# Altium footprint library Sensors.PcbLib: 20 footprints (part 1 of 2)
Each footprint in its own frame and in the unit in brackets; x right, y up, seen from the top. Pads: shape width x height; smd on the part's side, far side on the other; paste and mask are expansions set on the pad; w line width, h text height; cw(c..) or ccw(c..) is an arc to the next point about the centre after c.
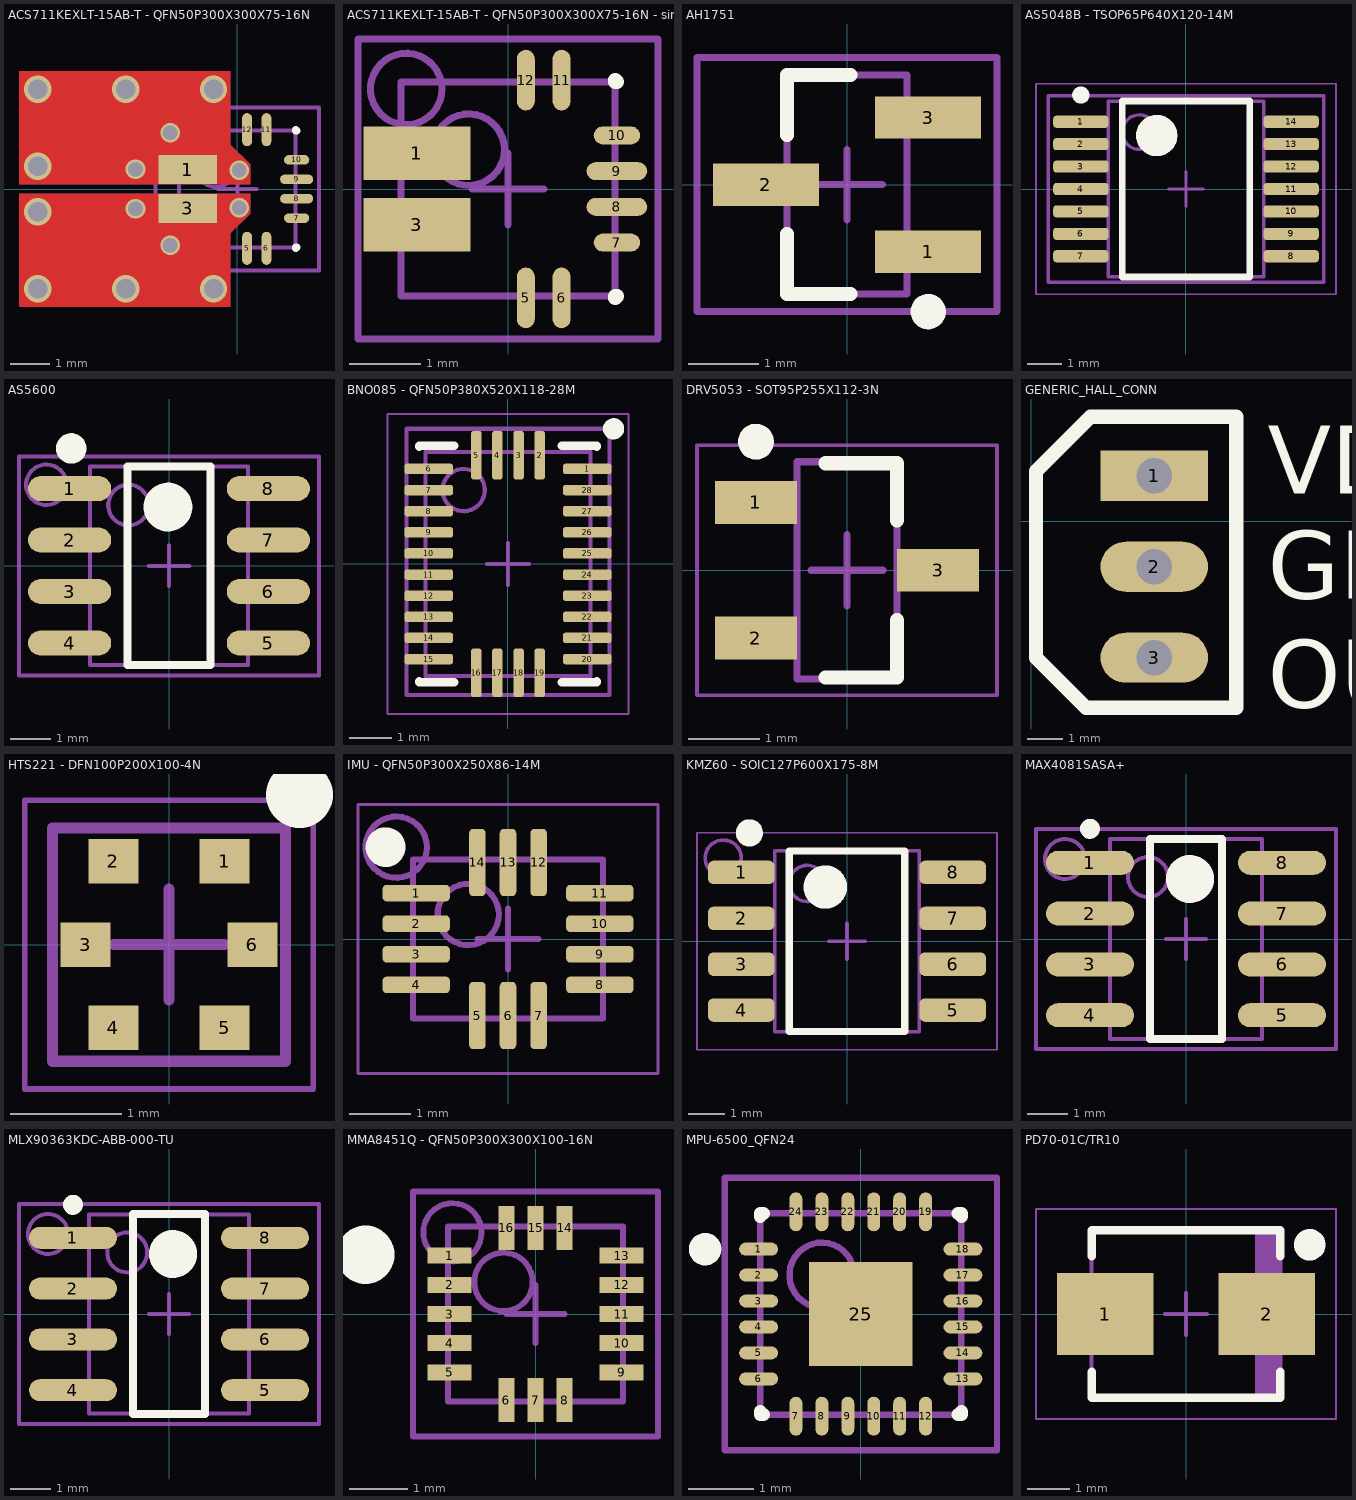
[diagram p0: the footprints below, top view; thin cyan lines are the x and y axes]

## ACS711KEXLT-15AB-T - QFN50P300X300X75-16N [mm] "QFN, 16-Leads, Body 3.0x3.0mm (max), Pitch 0.50mm, IPC Medium Density"
height 0.75
pads (10):
  rect 1.5x0.75 smd mask+0.07: 1(-1.275,0.5) 3(-1.275,-0.5)
  oval 0.25x0.85 smd mask+0.07: 5(0.25,-1.525) 6(0.75,-1.525) 11(0.75,1.525) 12(0.25,1.525)
  oval 0.65x0.25 smd mask+0.07: 7(1.525,-0.75) 10(1.525,0.75)
  oval 0.85x0.25 smd mask+0.07: 8(1.525,-0.25) 9(1.525,0.25)
via 0.051,-0.483 diameter 0.508 hole 0.381
via -0.61,-2.565 diameter 0.7 hole 0.5
via -2.87,-2.565 diameter 0.7 hole 0.5
via -5.131,-2.565 diameter 0.7 hole 0.5
via -5.131,-0.584 diameter 0.7 hole 0.5
via -2.616,-0.508 diameter 0.508 hole 0.381
via -1.727,-1.448 diameter 0.508 hole 0.381
via -1.727,1.448 diameter 0.508 hole 0.381
via -2.616,0.508 diameter 0.508 hole 0.381
via -5.131,0.584 diameter 0.7 hole 0.5
via -5.131,2.565 diameter 0.7 hole 0.5
via -2.87,2.565 diameter 0.7 hole 0.5
via -0.61,2.565 diameter 0.7 hole 0.5
via 0.051,0.483 diameter 0.508 hole 0.381
Top Layer:
  region: -5.613,-0.127 0.33,-0.127 0.33,-0.635 -0.178,-1.143 -0.178,-3.023 -5.613,-3.023
  region: -5.613,0.127 0.33,0.127 0.33,0.635 -0.178,1.143 -0.178,3.023 -5.613,3.023
Mid-Layer 1:
  region: -5.613,0.127 0.33,0.127 0.33,0.635 -0.178,1.143 -0.178,3.023 -5.613,3.023
  region: -5.613,-0.127 0.33,-0.127 0.33,-0.635 -0.178,-1.143 -0.178,-3.023 -5.613,-3.023
Mid-Layer 2:
  region: -5.613,-0.127 0.33,-0.127 0.33,-0.635 -0.178,-1.143 -0.178,-3.023 -5.613,-3.023
  region: -5.613,0.127 0.33,0.127 0.33,0.635 -0.178,1.143 -0.178,3.023 -5.613,3.023
Bottom Layer:
  region: -5.613,0.127 0.33,0.127 0.33,0.635 -0.178,1.143 -0.178,3.023 -5.613,3.023
  region: -5.613,-0.127 0.33,-0.127 0.33,-0.635 -0.178,-1.143 -0.178,-3.023 -5.613,-3.023
Top Overlay:
  lines w0.2: 1.5,-1.525 1.5,-1.5 1.525,-1.5 ; 1.5,1.525 1.5,1.5 1.525,1.5
Mechanical 1:
  circle w0.1: c-1.425,1.4 r0.5
Mechanical 13:
  circle w0.1: c-0.55,0.55 r0.5
  lines w0.1: -1.5,-1.5 1.5,-1.5 1.5,1.5 -1.5,1.5 -1.5,-1.5
Mechanical 15:
  lines w0.1: -0.5,0 0.5,0 ; 0,-0.5 0,0.5 ; -2.1,-2.1 2.1,-2.1 2.1,2.1 -2.1,2.1 -2.1,-2.1
Assembly:
  text ".Designator" at -1.9,-0.3 h1.1
3D body: height 0.75, standoff 0.08, extent -1.5,-1.5 1.5,1.5

## ACS711KEXLT-15AB-T - QFN50P300X300X75-16N - single layer [mm] "QFN, 16-Leads, Body 3.0x3.0mm (max), Pitch 0.50mm, IPC Medium Density"
height 0.75
pads (10):
  rect 1.5x0.75 smd mask+0.07: 1(-1.275,0.5) 3(-1.275,-0.5)
  oval 0.25x0.85 smd mask+0.07: 5(0.25,-1.525) 6(0.75,-1.525) 11(0.75,1.525) 12(0.25,1.525)
  oval 0.65x0.25 smd mask+0.07: 7(1.525,-0.75) 10(1.525,0.75)
  oval 0.85x0.25 smd mask+0.07: 8(1.525,-0.25) 9(1.525,0.25)
Top Overlay:
  lines w0.2: 1.5,-1.525 1.5,-1.5 1.525,-1.5 ; 1.5,1.525 1.5,1.5 1.525,1.5
Mechanical 13:
  circle w0.1: c-0.55,0.55 r0.5
  lines w0.1: -1.5,-1.5 1.5,-1.5 1.5,1.5 -1.5,1.5 -1.5,-1.5
Mechanical 15:
  lines w0.1: -0.5,0 0.5,0 ; 0,-0.5 0,0.5 ; -2.1,-2.1 2.1,-2.1 2.1,2.1 -2.1,2.1 -2.1,-2.1
Assembly:
  circle w0.1: c-1.425,1.4 r0.5
  text ".Designator" at -1.925,-0.3 h1.1
3D body: height 0.75, standoff 0.08, extent -1.5,-1.5 1.5,1.5

## AH1751 [mm] "SOT23, 3-Leads, Body 3.1x3.0mm (max), Pitch 0.95mm, IPC Medium Density"
height 1.4
pads (3):
  rect 1.5x0.6 smd: 1(1.15,-0.95) 2(-1.15,0) 3(1.15,0.95)
Top Overlay:
  circle w0.25: c1.15,-1.8 r0.125
  lines w0.2: -0.85,-0.7 -0.85,-1.55 0.05,-1.55 ; -0.85,0.7 -0.85,1.55 0.05,1.55
Mechanical 13:
  lines w0.1: -0.85,-1.55 0.85,-1.55 0.85,1.55 -0.85,1.55 -0.85,-1.55
Mechanical 15:
  lines w0.1: -0.5,0 0.5,0 ; 0,-0.5 0,0.5 ; -2.125,-1.8 2.125,-1.8 2.125,1.8 -2.125,1.8 -2.125,-1.8
Assembly:
  text ".Designator" at -1.875,-0.25 h1.1
3D body: height 1.4, standoff 0.01, extent -0.85,-1.55 0.85,1.55

## AS5048B - TSOP65P640X120-14M [mm] "TSOP, 14-Leads, Body 5.00x4.40mm, Pitch 0.65mm, IPC Low Density"
height 1.2
pads (14):
  rrect50% 1.6x0.35 smd paste-0.05: 1(-3.05,1.95) 2(-3.05,1.3) 3(-3.05,0.65) 4(-3.05,0) 5(-3.05,-0.65) 6(-3.05,-1.3) 7(-3.05,-1.95) 8(3.05,-1.95) 9(3.05,-1.3) 10(3.05,-0.65) 11(3.05,0) 12(3.05,0.65) 13(3.05,1.3) 14(3.05,1.95)
Top Overlay:
  circle w0.25: c-3.05,2.725 r0.125
  circle w0.6: c-0.85,1.55 r0.3
  lines w0.2: -1.85,-2.55 -1.85,2.55 1.85,2.55 1.85,-2.55 -1.85,-2.55
Mechanical 13:
  circle w0.1: c-1.35,1.65 r0.5
  lines w0.1: -2.25,-2.55 -2.25,2.55 2.25,2.55 2.25,-2.55 -2.25,-2.55
Mechanical 15:
  lines w0.05: -4.35,-3.05 -4.35,3.05 4.35,3.05 4.35,-3.05 -4.35,-3.05
  lines w0.1: -0.5,0 0.5,0 ; 0,-0.5 0,0.5
Assembly:
  lines w0.1: -4,-2.7 4,-2.7 4,2.7 -4,2.7 -4,-2.7
  text ".Designator" at -3.8,-0.4 h1.8
3D body: height 1.2, standoff 0.05, extent -2.25,-2.55 2.25,2.55

## AS5600 [mm] "SOIC, 8-Leads, Body 4.9x3.9mm (max), Pitch 1.27mm, IPC Medium Density"
height 1.75
pads (8):
  rrect100% 2.05x0.62 smd paste-0.04: 1(-2.45,1.905) 2(-2.45,0.635) 3(-2.45,-0.635) 4(-2.45,-1.905) 5(2.45,-1.905) 6(2.45,-0.635) 7(2.45,0.635) 8(2.45,1.905)
Top Overlay:
  circle w0.5: c-2.413,2.896 r0.125
  circle w0.6: c-0.025,1.45 r0.3
  lines w0.2: -1.025,-2.45 -1.025,2.45 1.025,2.45 1.025,-2.45 -1.025,-2.45
Mechanical 13:
  circle w0.1: c-1,1.5 r0.5
  lines w0.1: -1.95,-2.45 -1.95,2.45 1.95,2.45 1.95,-2.45 -1.95,-2.45
Mechanical 15:
  lines w0.1: -0.5,0 0.5,0 ; 0,-0.5 0,0.5 ; -3.7,-2.7 -3.7,2.7 3.7,2.7 3.7,-2.7 -3.7,-2.7
Assembly:
  circle w0.1: c-3.025,2 r0.5
  lines w0.1: -3.7,-2.7 3.7,-2.7 3.7,2.7 -3.7,2.7 -3.7,-2.7
  text ".Designator" at -3.4,-0.4 h1.8
3D body: height 1.75, standoff 0.1, extent -1.95,-2.45 1.95,2.45

## BNO085 - QFN50P380X520X118-28M [mm] "QFN, 28-Leads, Body 3.80x5.20mm, Pitch 0.50mm, IPC Low Density"
height 1.18
pads (28):
  rrect50% 1.15x0.25 smd paste-0.03 mask+0.07: 1(1.875,2.25) 6(-1.875,2.25) 7(-1.875,1.75) 8(-1.875,1.25) 9(-1.875,0.75) 10(-1.875,0.25) 11(-1.875,-0.25) 12(-1.875,-0.75) 13(-1.875,-1.25) 14(-1.875,-1.75) 15(-1.875,-2.25) 20(1.875,-2.25) 21(1.875,-1.75) 22(1.875,-1.25) 23(1.875,-0.75) 24(1.875,-0.25) 25(1.875,0.25) 26(1.875,0.75) 27(1.875,1.25) 28(1.875,1.75)
  rrect50% 0.25x1.15 smd paste-0.03 mask+0.07: 2(0.75,2.575) 3(0.25,2.575) 4(-0.25,2.575) 5(-0.75,2.575) 16(-0.75,-2.575) 17(-0.25,-2.575) 18(0.25,-2.575) 19(0.75,-2.575)
Top Overlay:
  circle w0.25: c2.5,3.2 r0.125
  lines w0.2: -2.1,-2.775 -2.1,-2.8 -1.275,-2.8 ; -2.1,2.775 -2.1,2.8 -1.275,2.8 ; 1.275,-2.8 2.1,-2.8 2.1,-2.775 ; 1.275,2.8 2.1,2.8 2.1,2.775
Mechanical 13:
  circle w0.1: c-1.05,1.75 r0.5
  lines w0.1: -1.95,-2.65 -1.95,2.65 1.95,2.65 1.95,-2.65 -1.95,-2.65
Mechanical 15:
  lines w0.05: -2.85,-3.55 -2.85,3.55 2.85,3.55 2.85,-3.55 -2.85,-3.55
  lines w0.1: -0.5,0 0.5,0 ; 0,-0.5 0,0.5
Assembly:
  lines w0.1: -2.4,-3.1 2.4,-3.1 2.4,3.2 -2.4,3.2 -2.4,-3.1
  text ".Designator" at -1.625,-0.1 h0.8
3D body: height 1.18, standoff 0.1, extent -1.95,-2.65 1.95,2.65

## DRV5053 - SOT95P255X112-3N [mm] "SOT23, 3-Leads, Body 2.92x2.55mm, Pitch 0.95mm, IPC Medium Density"
height 1.12
pads (3):
  rect 1.15x0.6 smd: 1(-1.275,0.95) 2(-1.275,-0.95) 3(1.275,0)
Top Overlay:
  circle w0.25: c-1.275,1.8 r0.125
  lines w0.2: -0.3,-1.5 0.7,-1.5 0.7,-0.7 ; -0.3,1.5 0.7,1.5 0.7,0.7
Mechanical 13:
  lines w0.1: -0.7,-1.52 0.7,-1.52 0.7,1.52 -0.7,1.52 -0.7,-1.52
Mechanical 15:
  lines w0.05: -2.1,-1.75 2.1,-1.75 2.1,1.75 -2.1,1.75 -2.1,-1.75
  lines w0.1: -0.5,0 0.5,0 ; 0,-0.5 0,0.5
Assembly:
  text ".Designator" at -1.925,-0.3 h1.1
3D body: height 1.12, standoff 0.01, extent -0.7,-1.52 0.7,1.52

## GENERIC_HALL_CONN [mm]
pads (3):
  rect 3x1.4 hole 1: 1(3.429,1.27)
  oval 3x1.4 hole 1: 2(3.429,-1.27) 3(3.429,-3.81)
Top Overlay:
  lines w0.4: 0.127,-3.81 0.127,1.397 1.651,2.921 5.715,2.921 5.715,-5.207 1.524,-5.207 0.127,-3.81
  text "OUT" at 6.604,-5.207 h1.9
  text "GND" at 6.604,-2.159 h1.9
  text "VDD" at 6.604,0.762 h1.9

## HTS221 - DFN100P200X100-4N [mm] "DFN, 4-Leads, Body 2.00x2.00mm, Pitch 1.00mm, IPC Medium Density"
height 1
pads (6):
  rect 0.45x0.4 smd: 1(0.5,0.75) 2(-0.5,0.75) 3(-0.75,0) 4(-0.5,-0.75) 5(0.5,-0.75) 6(0.75,0)
Top Overlay:
  circle w0.5: c1.175,1.35 r0.05
Mechanical 13:
  lines w0.1: -1.05,-1.05 1.05,-1.05 1.05,1.05 -1.05,1.05 -1.05,-1.05
Mechanical 15:
  lines w0.05: -1.3,-1.3 1.3,-1.3 1.3,1.3 -1.3,1.3 -1.3,-1.3
  lines w0.1: -0.5,0 0.5,0 ; 0,-0.5 0,0.5
3D body: height 1, standoff 0.05, extent -1.05,-1.05 1.05,1.05

## IMU - QFN50P300X250X86-14M [mm] "QFN, 14-Leads, Body 3.00x2.50mm, Pitch 0.50mm, IPC Low Density"
height 0.86
pads (14):
  rrect50% 1.1x0.27 smd paste-0.035 mask+0.07: 1(-1.5,0.75) 2(-1.5,0.25) 3(-1.5,-0.25) 4(-1.5,-0.75) 8(1.5,-0.75) 9(1.5,-0.25) 10(1.5,0.25) 11(1.5,0.75)
  rrect50% 0.27x1.1 smd paste-0.035 mask+0.07: 5(-0.5,-1.25) 6(0,-1.25) 7(0.5,-1.25) 12(0.5,1.25) 13(0,1.25) 14(-0.5,1.25)
Top Overlay:
  circle w0.4: c-2,1.5 r0.125
Mechanical 13:
  circle w0.1: c-0.65,0.4 r0.5
  lines w0.1: -1.55,-1.3 1.55,-1.3 1.55,1.3 -1.55,1.3 -1.55,-1.3
Mechanical 15:
  lines w0.05: -2.45,-2.2 2.45,-2.2 2.45,2.2 -2.45,2.2 -2.45,-2.2
  lines w0.1: -0.5,0 0.5,0 ; 0,-0.5 0,0.5
Assembly:
  circle w0.1: c-1.825,1.5 r0.5
  lines w0.05: -2.45,-2.2 -2.45,2.2 2.45,2.2 2.45,-2.2 -2.45,-2.2
  text ".Designator" at -1.725,-0.2 h0.8
3D body: height 0.86, standoff 0.01, extent -1.55,-1.3 1.55,1.3

## KMZ60 - SOIC127P600X175-8M [mm] "SOIC, 8-Leads, Body 4.90x3.90mm, Pitch 1.27mm, IPC Low Density"
height 1.75
pads (8):
  rrect50% 1.85x0.65 smd paste-0.025: 1(-2.925,1.905) 2(-2.925,0.635) 3(-2.925,-0.635) 4(-2.925,-1.905) 5(2.925,-1.905) 6(2.925,-0.635) 7(2.925,0.635) 8(2.925,1.905)
Top Overlay:
  circle w0.6: c-0.6,1.5 r0.3
  lines w0.2: -1.6,-2.5 -1.6,2.5 1.6,2.5 1.6,-2.5 -1.6,-2.5
  lines w0.5: -2.585,3.048 ccw(c-2.7,3) -2.575,3
Mechanical 13:
  circle w0.1: c-1.1,1.6 r0.5
  lines w0.1: -2,-2.5 -2,2.5 2,2.5 2,-2.5 -2,-2.5
Mechanical 15:
  lines w0.05: -4.15,-3 -4.15,3 4.15,3 4.15,-3 -4.15,-3
  lines w0.1: -0.5,0 0.5,0 ; 0,-0.5 0,0.5
Assembly:
  circle w0.1: c-3.425,2.3 r0.5
  text ".Designator" at -2.325,-0.275 h1.1
3D body: height 1.75, standoff 0.1, extent -2,-2.5 2,2.5

## MAX4081SASA+ [mm] "SOIC, 8-Leads, Body 5.0x3.8mm (max), Pitch 1.27mm, IPC Medium Density"
height 1.75
pads (8):
  oval 2.2x0.6 smd: 1(-2.4,1.905) 2(-2.4,0.635) 3(-2.4,-0.635) 4(-2.4,-1.905) 5(2.4,-1.905) 6(2.4,-0.635) 7(2.4,0.635) 8(2.4,1.905)
Top Overlay:
  circle w0.25: c-2.4,2.755 r0.125
  circle w0.6: c0.1,1.5 r0.3
  lines w0.2: -0.9,-2.5 -0.9,2.5 0.9,2.5 0.9,-2.5 -0.9,-2.5
Mechanical 13:
  circle w0.1: c-0.95,1.55 r0.5
  lines w0.1: -1.9,-2.5 -1.9,2.5 1.9,2.5 1.9,-2.5 -1.9,-2.5
Mechanical 15:
  lines w0.1: -0.5,0 0.5,0 ; 0,-0.5 0,0.5 ; -3.75,-2.75 -3.75,2.75 3.75,2.75 3.75,-2.75 -3.75,-2.75
Assembly:
  circle w0.1: c-3.025,2 r0.5
  text ".Designator" at -2.4,-0.25 h1.1
3D body: height 1.75, standoff 0.1, extent -1.9,-2.5 1.9,2.5

## MLX90363KDC-ABB-000-TU [mm] "SOIC, 8-Leads, Body 5.0x4.0mm (max), Pitch 1.27mm, IPC Medium Density"
height 1.72
pads (8):
  oval 2.2x0.55 smd: 1(-2.4,1.905) 2(-2.4,0.635) 3(-2.4,-0.635) 4(-2.4,-1.905) 5(2.4,-1.905) 6(2.4,-0.635) 7(2.4,0.635) 8(2.4,1.905)
Top Overlay:
  circle w0.6: c0.1,1.5 r0.3
  circle w0.25: c-2.4,2.73 r0.125
  lines w0.2: -0.9,-2.5 0.9,-2.5 0.9,2.5 -0.9,2.5 -0.9,-2.5
Mechanical 13:
  circle w0.1: c-1.045,1.54 r0.5
  lines w0.1: -1.995,-2.49 1.995,-2.49 1.995,2.49 -1.995,2.49 -1.995,-2.49
Mechanical 15:
  lines w0.1: -0.5,0 0.5,0 ; 0,-0.5 0,0.5 ; -3.75,-2.75 3.75,-2.75 3.75,2.75 -3.75,2.75 -3.75,-2.75
Assembly:
  circle w0.1: c-3.025,2 r0.5
  text ".Designator" at -2.375,-0.275 h1.1
3D body: height 1.72, standoff 0.1, extent -1.995,-2.49 1.995,2.49

## MMA8451Q - QFN50P300X300X100-16N [mm] "QFN, 16-Leads, Body 3.0x3.0mm (max), Pitch 0.50mm, IPC Medium Density"
height 1
pads (16):
  rect 0.75x0.275 smd mask+0.062: 1(-1.475,1) 2(-1.475,0.5) 3(-1.475,0) 4(-1.475,-0.5) 5(-1.475,-1) 9(1.475,-1) 10(1.475,-0.5) 11(1.475,0) 12(1.475,0.5) 13(1.475,1)
  rect 0.275x0.75 smd mask+0.062: 6(-0.5,-1.475) 7(0,-1.475) 8(0.5,-1.475) 14(0.5,1.475) 15(0,1.475) 16(-0.5,1.475)
Top Overlay:
  circle w0.75: c-2.919,1.016 r0.125
Mechanical 13:
  circle w0.1: c-0.55,0.55 r0.5
  lines w0.1: -1.5,-1.5 1.5,-1.5 1.5,1.5 -1.5,1.5 -1.5,-1.5
Mechanical 15:
  lines w0.1: -0.5,0 0.5,0 ; 0,-0.5 0,0.5 ; -2.1,-2.1 2.1,-2.1 2.1,2.1 -2.1,2.1 -2.1,-2.1
Assembly:
  circle w0.1: c-1.425,1.4 r0.5
  text ".Designator" at -1.95,-0.25 h1.1
3D body: height 1, standoff 0, extent -1.5,-1.5 1.5,1.5

## MPU-6500_QFN24 [mm] "QFN, 24-Leads, Body 3.1x3.1mm (max), Pitch 0.40mm, IPC Medium Density"
height 0.95
pads (25):
  oval 0.6x0.2 smd mask+0.049: 1(-1.575,1) 2(-1.575,0.6) 3(-1.575,0.2) 4(-1.575,-0.2) 5(-1.575,-0.6) 6(-1.575,-1) 13(1.575,-1) 14(1.575,-0.6) 15(1.575,-0.2) 16(1.575,0.2) 17(1.575,0.6) 18(1.575,1)
  oval 0.2x0.6 smd mask+0.049: 7(-1,-1.575) 8(-0.6,-1.575) 9(-0.2,-1.575) 10(0.2,-1.575) 11(0.6,-1.575) 12(1,-1.575) 19(1,1.575) 20(0.6,1.575) 21(0.2,1.575) 22(-0.2,1.575) 23(-0.6,1.575) 24(-1,1.575)
  rect 1.6x1.6 smd mask+0.051: 25(0,0)
Top Overlay:
  circle w0.25: c-2.4,1 r0.125
  lines w0.2: -1.55,-1.5 -1.55,-1.55 -1.5,-1.55 ; -1.55,1.5 -1.55,1.55 -1.5,1.55 ; 1.5,-1.55 1.55,-1.55 1.55,-1.5 ; 1.5,1.55 1.55,1.55 1.55,1.5
Mechanical 13:
  circle w0.1: c-0.6,0.6 r0.5
  lines w0.1: -1.55,-1.55 1.55,-1.55 1.55,1.55 -1.55,1.55 -1.55,-1.55
Mechanical 15:
  lines w0.1: -0.5,0 0.5,0 ; 0,-0.5 0,0.5 ; -2.1,-2.1 2.1,-2.1 2.1,2.1 -2.1,2.1 -2.1,-2.1
Assembly:
  text ".Designator" at -1.9,-0.225 h1.1
3D body: height 0.95, standoff 0.05, extent -1.55,-1.55 1.55,1.55

## PD70-01C/TR10 [mm] "Molded Diode, 2-Leads, Body 4.40x3.90mm, IPC Low Density"
height 1.3
pads (2):
  rect 2.3x1.95 smd: 1(-1.925,0) 2(1.925,0)
Top Overlay:
  circle w0.5: c2.95,1.65 r0.125
  lines w0.2: -2.25,-1.375 -2.25,-2 2.25,-2 2.25,-1.375 ; -2.25,1.375 -2.25,2 2.25,2 2.25,1.375
Mechanical 13:
  rectangle: 1.645,-2 2.25,2
  lines w0.1: -2.25,-2 2.25,-2 2.25,2 -2.25,2 -2.25,-2
Mechanical 15:
  lines w0.05: -3.575,-2.5 3.575,-2.5 3.575,2.5 -3.575,2.5 -3.575,-2.5
  lines w0.1: -0.5,0 0.5,0 ; 0,-0.5 0,0.5
Assembly:
  text ".Designator" at -2.225,-0.275 h1.1
3D body: height 1.3, standoff 0, extent -2.25,-2 2.25,2